# EAGLE library part NL-SW-LTE-GELS3-C (library clackboard_lib)
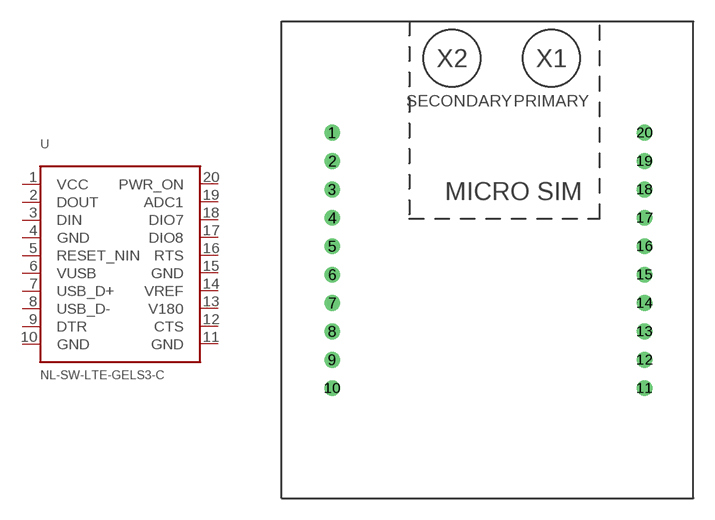
[diagram p6: symbol with the pads of NL-SW-LTE-GELS3-C; footprint NL-SW-LTE-GELS3-C]

Designator prefix U

## NL-SW-LTE-GELS3-C  [NL-SW-LTE-GELS3-C]
1  VCC
2  DOUT
3  DIN
4  GND
5  RESET_NIN
6  VUSB
7  USB_D+
8  USB_D-
9  DTR
10  GND
11  GND
12  CTS
13  V180
14  VREF
15  GND
16  RTS
17  DIO8
18  DIO7
19  ADC1
20  PWR_ON

## Footprint NL-SW-LTE-GELS3-C (pad centres in mm)
drill 0.6: 1 3.56,25.75; 2 3.56,23.75; 3 3.56,21.75; 4 3.56,19.75; 5 3.56,17.75; 6 3.56,15.75; 7 3.56,13.75; 8 3.56,11.75; 9 3.56,9.75; 10 3.56,7.75; 11 25.56,7.75; 12 25.56,9.75; 13 25.56,11.75; 14 25.56,13.75; 15 25.56,15.75; 16 25.56,17.75; 17 25.56,19.75; 18 25.56,21.75; 19 25.56,23.75; 20 25.56,25.75